# Altium integrated library Micron Memory Mobile LPDRAM.IntLib: 146 symbols (part 7 of 41)
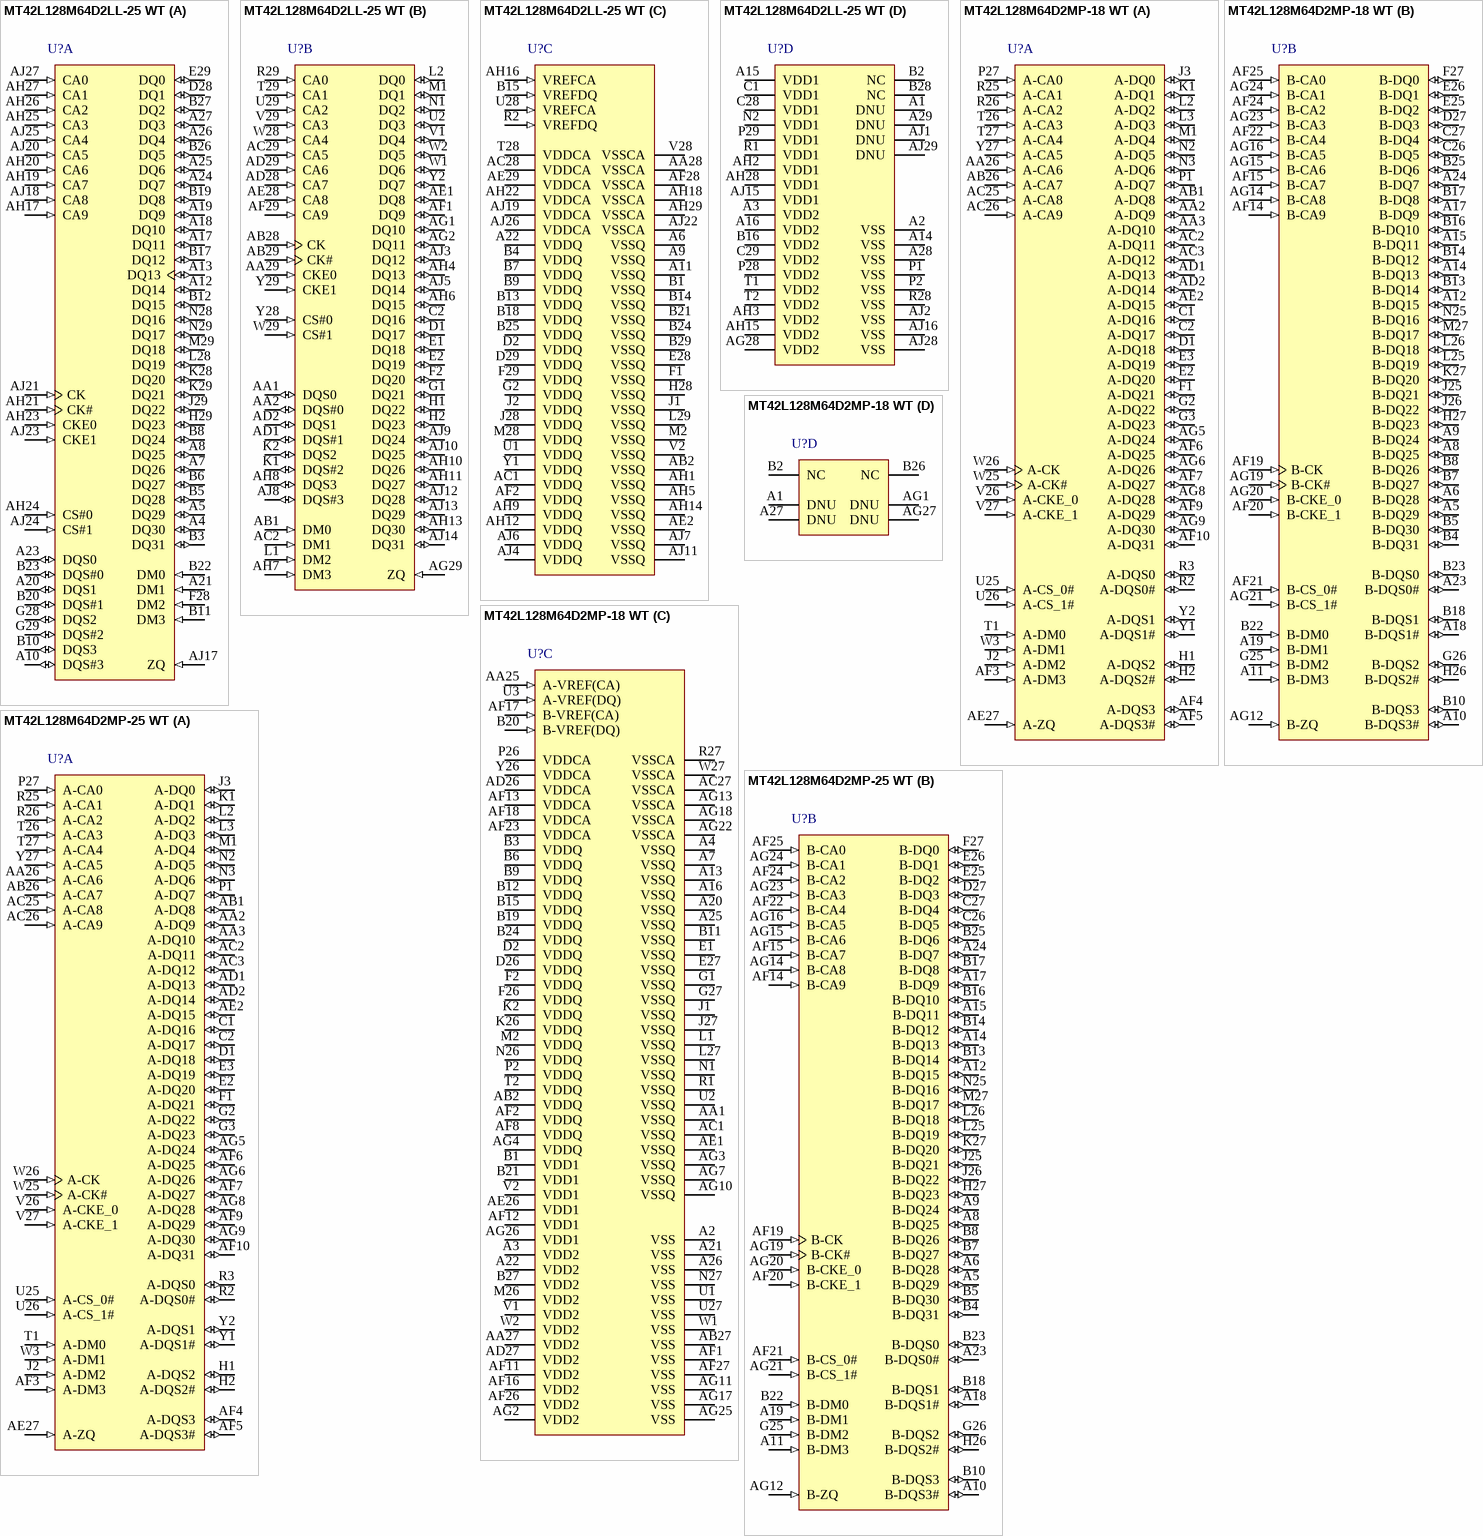
[diagram p30: symbols MT42L128M64D2LL-25 WT to MT42L128M64D2MP-25 WT]

## MT42L128M64D2LL-25 WT
designator U?
8Gb LPDDR2-800 SDRAM, 128Mb x 64, 2.5ns, 1.2V, -25 to 85 degC, 216-Ball WFBGA, Pb-Free; Manufacturer: Micron; PartNumber: MT42L128M64D2LL-25 WT; Clock Rate: 400 MHz; Op. Temp.: -25C to +85C; DatasheetVersion: Rev.L; PackageVersion: Rev.L; PackageReference: MICT-LL-216; PackageDescription: 216-Ball Fine-Pitch Ball Grid Array, 12 x 12 mm, Pitch 0.4 mm; Cycle Time: 2.5ns; Data Rate: LPDDR2-800; Density: 8Gb; Depth: 128Mb; Package: WFBGA; Part Status: Sampling; Pin Count: 216-ball; RoHS: Yes; Technology: Mobile LPDDR2; Voltage: 1.2V; Width: x64; Mounting Technology: Surface Mount; ComponentLink1Description: Manufacturer URL; ComponentLink1URL: http://www.micron.com/; ComponentLink2Description: Datasheet; ComponentLink2URL: http://www.micron.com/~/media/Documents/Products/Data%20Sheet/DRAM/Mobile%20DRAM/Low-Power%20DRAM/LPDDR2/U80M_4Gb_mobile_lpddr2_s4_sdram.pdf; ComponentLink3Description: Package Specification; ComponentLink3URL: http://www.micron.com/~/media/Documents/Products/Data%20Sheet/DRAM/Mobile%20DRAM/Low-Power%20DRAM/LPDDR2/U80M_4Gb_mobile_lpddr2_s4_sdram.pdf
footprint MICT-LL-216 (BGA, 216-Balls, Body 12x12mm, Pitch 0.4mm)
part A pins: A4 DQ30 (io) "Data input/output: Bidirectional data bus.", A5 DQ29 (io) "Data input/output: Bidirectional data bus.", A7 DQ26 (io) "Data input/output: Bidirectional data bus.", A8 DQ25 (io) "Data input/output: Bidirectional data bus.", A10 DQS#3 (io) "Data strobe: The data strobe is bidirectional (used for read and write data) and complementary (DQS and DQS#). It is edge-aligned output with read data and centered input with write data. DQS[3:0]/DQS[3:0]# is DQS for each (See Datasheet)", A12 DQ14 (io) "Data input/output: Bidirectional data bus.", A13 DQ13 (io) "Data input/output: Bidirectional data bus.", A17 DQ11 (io) "Data input/output: Bidirectional data bus.", A18 DQ10 (io) "Data input/output: Bidirectional data bus.", A19 DQ9 (io) "Data input/output: Bidirectional data bus.", A20 DQS1 (io) "Data strobe: The data strobe is bidirectional (used for read and write data) and complementary (DQS and DQS#). It is edge-aligned output with read data and centered input with write data. DQS[3:0]/DQS[3:0]# is DQS for each (See Datasheet)", A21 DM1 (in) "Input data mask: DM is an input mask signal for write data. Although DM balls are input-only, the DM loading is designed to match that of DQ and DQS balls. DM[3:0] is DM for each of the four data bytes, respectively.", A23 DQS0 (io) "Data strobe: The data strobe is bidirectional (used for read and write data) and complementary (DQS and DQS#). It is edge-aligned output with read data and centered input with write data. DQS[3:0]/DQS[3:0]# is DQS for each (See Datasheet)", A24 DQ7 (io) "Data input/output: Bidirectional data bus.", A25 DQ6 (io) "Data input/output: Bidirectional data bus.", A26 DQ4 (io) "Data input/output: Bidirectional data bus.", A27 DQ3 (io) "Data input/output: Bidirectional data bus.", AH17 CA9 (in) "Command/address inputs: Provide the command and address inputs according to the command truth table.", AH19 CA7 (in) "Command/address inputs: Provide the command and address inputs according to the command truth table.", AH20 CA6 (in) "Command/address inputs: Provide the command and address inputs according to the command truth table.", AH21 CK# (in) "Clock: CK and CK# are differential clock inputs. All CA inputs are sampled on both rising and falling edges of CK. CS and CKE inputs are sampled at the rising edge of CK. AC timings are referenced to clock.", AH23 CKE0 (in) "Clock enable: CKE HIGH activates and CKE LOW deactivates the internal clock signals, input buffers, and output drivers. Power-saving modes are entered and exited via CKE transitions. CKE is considered part of the command (See Datasheet)", AH24 CS#0 (in) "Chip select: CS# is considered part of the command code and is sampled at the rising edge of CK.", AH25 CA3 (in) "Command/address inputs: Provide the command and address inputs according to the command truth table.", AH26 CA2 (in) "Command/address inputs: Provide the command and address inputs according to the command truth table.", AH27 CA1 (in) "Command/address inputs: Provide the command and address inputs according to the command truth table.", AJ17 ZQ (in) "External impedance (240 ohm): This signal is used to calibrate the device output impedance.", AJ18 CA8 (in) "Command/address inputs: Provide the command and address inputs according to the command truth table.", AJ20 CA5 (in) "Command/address inputs: Provide the command and address inputs according to the command truth table.", AJ21 CK (in) "Clock: CK and CK# are differential clock inputs. All CA inputs are sampled on both rising and falling edges of CK. CS and CKE inputs are sampled at the rising edge of CK. AC timings are referenced to clock.", AJ23 CKE1 (in) "Clock enable: CKE HIGH activates and CKE LOW deactivates the internal clock signals, input buffers, and output drivers. Power-saving modes are entered and exited via CKE transitions. CKE is considered part of the command (See Datasheet)", AJ24 CS#1 (in) "Chip select: CS# is considered part of the command code and is sampled at the rising edge of CK.", AJ25 CA4 (in) "Command/address inputs: Provide the command and address inputs according to the command truth table.", AJ27 CA0 (in) "Command/address inputs: Provide the command and address inputs according to the command truth table.", B3 DQ31 (io) "Data input/output: Bidirectional data bus.", B5 DQ28 (io) "Data input/output: Bidirectional data bus.", B6 DQ27 (io) "Data input/output: Bidirectional data bus.", B8 DQ24 (io) "Data input/output: Bidirectional data bus.", B10 DQS3 (io) "Data input/output: Bidirectional data bus.", B11 DM3 (in) "Input data mask: DM is an input mask signal for write data. Although DM balls are input-only, the DM loading is designed to match that of DQ and DQS balls. DM[3:0] is DM for each of the four data bytes, respectively.", B12 DQ15 (io) "Data input/output: Bidirectional data bus.", B17 DQ12 (io) "Data input/output: Bidirectional data bus.", B19 DQ8 (io) "Data input/output: Bidirectional data bus.", B20 DQS#1 (io) "Data strobe: The data strobe is bidirectional (used for read and write data) and complementary (DQS and DQS#). It is edge-aligned output with read data and centered input with write data. DQS[3:0]/DQS[3:0]# is DQS for each (See Datasheet)", B22 DM0 (in) "Input data mask: DM is an input mask signal for write data. Although DM balls are input-only, the DM loading is designed to match that of DQ and DQS balls. DM[3:0] is DM for each of the four data bytes, respectively.", B23 DQS#0 (io) "Data strobe: The data strobe is bidirectional (used for read and write data) and complementary (DQS and DQS#). It is edge-aligned output with read data and centered input with write data. DQS[3:0]/DQS[3:0]# is DQS for each (See Datasheet)", B26 DQ5 (io) "Data input/output: Bidirectional data bus.", B27 DQ2 (io) "Data input/output: Bidirectional data bus.", D28 DQ1 (io) "Data input/output: Bidirectional data bus.", E29 DQ0 (io) "Data input/output: Bidirectional data bus.", F28 DM2 (in) "Input data mask: DM is an input mask signal for write data. Although DM balls are input-only, the DM loading is designed to match that of DQ and DQS balls. DM[3:0] is DM for each of the four data bytes, respectively.", G28 DQS2 (io) "Data strobe: The data strobe is bidirectional (used for read and write data) and complementary (DQS and DQS#). It is edge-aligned output with read data and centered input with write data. DQS[3:0]/DQS[3:0]# is DQS for each (See Datasheet)", G29 DQS#2 (io) "Data strobe: The data strobe is bidirectional (used for read and write data) and complementary (DQS and DQS#). It is edge-aligned output with read data and centered input with write data. DQS[3:0]/DQS[3:0]# is DQS for each (See Datasheet)", H29 DQ23 (io) "Data input/output: Bidirectional data bus.", J29 DQ22 (io) "Data input/output: Bidirectional data bus.", K28 DQ20 (io) "Data input/output: Bidirectional data bus.", K29 DQ21 (io) "Data input/output: Bidirectional data bus.", L28 DQ19 (io) "Data input/output: Bidirectional data bus.", M29 DQ18 (io) "Data input/output: Bidirectional data bus.", N28 DQ16 (io) "Data input/output: Bidirectional data bus.", N29 DQ17 (io) "Data input/output: Bidirectional data bus."
part B pins: AA1 DQS0 (io) "Data strobe: The data strobe is bidirectional (used for read and write data) and complementary (DQS and DQS#). It is edge-aligned output with read data and centered input with write data. DQS[3:0]/DQS[3:0]# is DQS for each (See Datasheet)", AA2 DQS#0 (io) "Data strobe: The data strobe is bidirectional (used for read and write data) and complementary (DQS and DQS#). It is edge-aligned output with read data and centered input with write data. DQS[3:0]/DQS[3:0]# is DQS for each (See Datasheet)", AA29 CKE0 (in) "Clock enable: CKE HIGH activates and CKE LOW deactivates the internal clock signals, input buffers, and output drivers. Power-saving modes are entered and exited via CKE transitions. CKE is considered part of the command (See Datasheet)", AB1 DM0 (in) "Input data mask: DM is an input mask signal for write data. Although DM balls are input-only, the DM loading is designed to match that of DQ and DQS balls. DM[3:0] is DM for each of the four data bytes, respectively.", AB28 CK (in) "Clock: CK and CK# are differential clock inputs. All CA inputs are sampled on both rising and falling edges of CK. CS and CKE inputs are sampled at the rising edge of CK. AC timings are referenced to clock.", AB29 CK# (in) "Clock: CK and CK# are differential clock inputs. All CA inputs are sampled on both rising and falling edges of CK. CS and CKE inputs are sampled at the rising edge of CK. AC timings are referenced to clock.", AC2 DM1 (in) "Input data mask: DM is an input mask signal for write data. Although DM balls are input-only, the DM loading is designed to match that of DQ and DQS balls. DM[3:0] is DM for each of the four data bytes, respectively.", AC29 CA5 (in) "Command/address inputs: Provide the command and address inputs according to the command truth table.", AD1 DQS#1 (io) "Data strobe: The data strobe is bidirectional (used for read and write data) and complementary (DQS and DQS#). It is edge-aligned output with read data and centered input with write data. DQS[3:0]/DQS[3:0]# is DQS for each (See Datasheet)", AD2 DQS1 (io) "Data strobe: The data strobe is bidirectional (used for read and write data) and complementary (DQS and DQS#). It is edge-aligned output with read data and centered input with write data. DQS[3:0]/DQS[3:0]# is DQS for each (See Datasheet)", AD28 CA7 (in) "Command/address inputs: Provide the command and address inputs according to the command truth table.", AD29 CA6 (in) "Command/address inputs: Provide the command and address inputs according to the command truth table.", AE1 DQ8 (io) "Data input/output: Bidirectional data bus.", AE28 CA8 (in) "Command/address inputs: Provide the command and address inputs according to the command truth table.", AF1 DQ9 (io) "Data input/output: Bidirectional data bus.", AF29 CA9 (in) "Command/address inputs: Provide the command and address inputs according to the command truth table.", AG1 DQ10 (io) "Data input/output: Bidirectional data bus.", AG2 DQ11 (io) "Data input/output: Bidirectional data bus.", AG29 ZQ (in) "External impedance (240 ohm): This signal is used to calibrate the device output impedance.", AH4 DQ13 (io) "Data input/output: Bidirectional data bus.", AH6 DQ15 (io) "Data input/output: Bidirectional data bus.", AH7 DM3 (in) "Input data mask: DM is an input mask signal for write data. Although DM balls are input-only, the DM loading is designed to match that of DQ and DQS balls. DM[3:0] is DM for each of the four data bytes, respectively", AH8 DQS3 (io) "Data strobe: The data strobe is bidirectional (used for read and write data) and complementary (DQS and DQS#). It is edge-aligned output with read data and centered input with write data. DQS[3:0]/DQS[3:0]# is DQS for each (See Datasheet)", AH10 DQ26 (io) "Data input/output: Bidirectional data bus.", AH11 DQ27 (io) "Data input/output: Bidirectional data bus.", AH13 DQ30 (io) "Data input/output: Bidirectional data bus.", AJ3 DQ12 (io) "Data input/output: Bidirectional data bus.", AJ5 DQ14 (io) "Data input/output: Bidirectional data bus.", AJ8 DQS#3 (io) "Data strobe: The data strobe is bidirectional (used for read and write data) and complementary (DQS and DQS#). It is edge-aligned output with read data and centered input with write data. DQS[3:0]/DQS[3:0]# is DQS for each (See Datasheet)", AJ9 DQ24 (io) "Data input/output: Bidirectional data bus.", AJ10 DQ25 (io) "Data input/output: Bidirectional data bus.", AJ12 DQ28 (io) "Data input/output: Bidirectional data bus.", AJ13 DQ29 (io) "Data input/output: Bidirectional data bus.", AJ14 DQ31 (io) "Data input/output: Bidirectional data bus.", C2 DQ16 (io) "Data input/output: Bidirectional data bus.", D1 DQ17 (io) "Data input/output: Bidirectional data bus.", E1 DQ18 (io) "Data input/output: Bidirectional data bus.", E2 DQ19 (io) "Data input/output: Bidirectional data bus.", F2 DQ20 (io) "Data input/output: Bidirectional data bus.", G1 DQ21 (io) "Data input/output: Bidirectional data bus.", H1 DQ22 (io) "Data input/output: Bidirectional data bus.", H2 DQ23 (io) "Data input/output: Bidirectional data bus.", K1 DQS#2 (io) "Data strobe: The data strobe is bidirectional (used for read and write data) and complementary (DQS and DQS#). It is edge-aligned output with read data and centered input with write data. DQS[3:0]/DQS[3:0]# is DQS for each (See Datasheet)", K2 DQS2 (io) "Data strobe: The data strobe is bidirectional (used for read and write data) and complementary (DQS and DQS#). It is edge-aligned output with read data and centered input with write data. DQS[3:0]/DQS[3:0]# is DQS for each (See Datasheet)", L1 DM2 (in) "Input data mask: DM is an input mask signal for write data. Although DM balls are input-only, the DM loading is designed to match that of DQ and DQS balls. DM[3:0] is DM for each of the four data bytes, respectively.", L2 DQ0 (io) "Data input/output: Bidirectional data bus.", M1 DQ1 (io) "Data input/output: Bidirectional data bus.", N1 DQ2 (io) "Data input/output: Bidirectional data bus.", R29 CA0 (in) "Command/address inputs: Provide the command and address inputs according to the command truth table.", T29 CA1 (in) "Command/address inputs: Provide the command and address inputs according to the command truth table.", U2 DQ3 (io) "Data input/output: Bidirectional data bus.", U29 CA2 (in) "Command/address inputs: Provide the command and address inputs according to the command truth table.", V1 DQ4 (io) "Data input/output: Bidirectional data bus.", V29 CA3 (in) "Command/address inputs: Provide the command and address inputs according to the command truth table.", W1 DQ6 (io) "Data input/output: Bidirectional data bus.", W2 DQ5 (io) "Data input/output: Bidirectional data bus.", W28 CA4 (in) "Command/address inputs: Provide the command and address inputs according to the command truth table.", W29 CS#1 (in) "Chip select: CS# is considered part of the command code and is sampled at the rising edge of CK.", Y2 DQ7 (io) "Data input/output: Bidirectional data bus.", Y28 CS#0 (in) "Chip select: CS# is considered part of the command code and is sampled at the rising edge of CK.", Y29 CKE1 (in) "Clock enable: CKE HIGH activates and CKE LOW deactivates the internal clock signals, input buffers, and output drivers. Power-saving modes are entered and exited via CKE transitions. CKE is considered part of the command (See Datasheet)"
part C pins: A6 VSSQ (power) "DQ ground: Isolated on the die for improved noise immunity.", A9 VSSQ (power) "DQ ground: Isolated on the die for improved noise immunity.", A11 VSSQ (power) "DQ ground: Isolated on the die for improved noise immunity.", A22 VDDQ (power) "DQ power supply: Isolated on the die for improved noise immunity.", AA28 VSSCA (power) "Command/address ground: Isolated on the die for improved noise immunity.", AB2 VSSQ (power) "DQ ground: Isolated on the die for improved noise immunity.", AC1 VDDQ (power) "DQ power supply: Isolated on the die for improved noise immunity.", AC28 VDDCA (power) "Command/address power supply: Command/address power supply", AE2 VSSQ (power) "DQ ground: Isolated on the die for improved noise immunity.", AE29 VDDCA (power) "Command/address power supply: Command/address power supply.", AF2 VDDQ (power) "DQ power supply: Isolated on the die for improved noise immunity.", AF28 VSSCA (power) "Command/address ground: Isolated on the die for improved noise immunity", AH1 VSSQ (power) "DQ ground: Isolated on the die for improved noise immunity", AH5 VSSQ (power) "DQ ground: Isolated on the die for improved noise immunity.", AH9 VDDQ (power) "DQ power supply: Isolated on the die for improved noise immunity.", AH12 VDDQ (power) "DQ power supply: Isolated on the die for improved noise immunity.", AH14 VSSQ (power) "DQ ground: Isolated on the die for improved noise immunity.", AH16 VREFCA (in) "Reference voltage: VREFCA is reference for command/address input buffers, VREFDQ is reference for DQ input buffers.", AH18 VSSCA (power) "Command/address ground: Isolated on the die for improved noise immunity.", AH22 VDDCA (power) "Command/address power supply: Command/address power supply.", AH29 VSSCA (power) "Command/address ground: Isolated on the die for improved noise immunity.", AJ4 VDDQ (power) "DQ power supply: Isolated on the die for improved noise immunity.", AJ6 VDDQ (power) "DQ power supply: Isolated on the die for improved noise immunity.", AJ7 VSSQ (power) "DQ ground: Isolated on the die for improved noise immunity.", AJ11 VSSQ (power) "DQ ground: Isolated on the die for improved noise immunity.", AJ19 VDDCA (power) "Command/address power supply: Command/address power supply.", AJ22 VSSCA (power) "Command/address ground: Isolated on the die for improved noise immunity.", AJ26 VDDCA (power) "Command/address power supply: Command/address power supply.", B1 VSSQ (power) "DQ ground: Isolated on the die for improved noise immunity.", B4 VDDQ (power) "DQ power supply: Isolated on the die for improved noise immunity.", B7 VDDQ (power) "DQ power supply: Isolated on the die for improved noise immunity", B9 VDDQ (power) "DQ power supply: Isolated on the die for improved noise immunity.", B13 VDDQ (power) "DQ power supply: Isolated on the die for improved noise immunity.", B14 VSSQ (power) "DQ ground: Isolated on the die for improved noise immunity.", B15 VREFDQ (in) "Reference voltage: VREFCA is reference for command/address input buffers,", B18 VDDQ (power) "DQ power supply: Isolated on the die for improved noise immunity.", B21 VSSQ (power) "DQ ground: Isolated on the die for improved noise immunity.", B24 VSSQ (power) "DQ ground: Isolated on the die for improved noise immunity.", B25 VDDQ (power) "DQ power supply: Isolated on the die for improved noise immunity.", B29 VSSQ (power) "DQ power supply: Isolated on the die for improved noise immunity.", D2 VDDQ (power) "DQ power supply: Isolated on the die for improved noise immunity.", D29 VDDQ (power) "DQ power supply: Isolated on the die for improved noise immunity.", E28 VSSQ (power) "DQ ground: Isolated on the die for improved noise immunity.", F1 VSSQ (power) "DQ ground: Isolated on the die for improved noise immunity.", F29 VDDQ (power) "DQ power supply: Isolated on the die for improved noise immunity.", G2 VDDQ (power) "DQ power supply: Isolated on the die for improved noise immunity.", H28 VSSQ (power) "DQ ground: Isolated on the die for improved noise immunity.", J1 VSSQ (power) "DQ ground: Isolated on the die for improved noise immunity.", J2 VDDQ (power) "DQ power supply: Isolated on the die for improved noise immunity.", J28 VDDQ (power) "DQ power supply: Isolated on the die for improved noise immunity.", L29 VSSQ (power) "DQ ground: Isolated on the die for improved noise immunity.", M2 VSSQ (power) "DQ ground: Isolated on the die for improved noise immunity.", M28 VDDQ (power) "DQ power supply: Isolated on the die for improved noise immunity.", R2 VREFDQ (in) "Reference voltage: VREFCA is reference for command/address input buffers, VREFDQ is reference for DQ input buffers.", T28 VDDCA (power) "Command/address power supply: Command/address power supply.", U1 VDDQ (power) "DQ power supply: Isolated on the die for improved noise immunity.", U28 VREFCA (in) "Reference voltage: VREFCA is reference for command/address input buffers, VREFDQ is reference for DQ input buffers.", V2 VSSQ (power) "DQ ground: Isolated on the die for improved noise immunity.", V28 VSSCA (power) "Command/address ground: Isolated on the die for improved noise immunity.", Y1 VDDQ (power) "DQ power supply: Isolated on the die for improved noise immunity."
part D pins: A1 DNU "Do not use: Must be grounded or left floating.", A2 VSS (power) "Common ground", A3 VDD2 (power) "Core power: Supply 2.", A14 VSS (power) "Common ground", A15 VDD1 (power) "Core power: Supply 1.", A16 VDD2 (power) "Core power: Supply 2.", A28 VSS (power) "Common ground", A29 DNU "Do not use: Must be grounded or left floating.", AG28 VDD2 (power) "Core power: Supply 2.", AH2 VDD1 (power) "Core power: Supply 1.", AH3 VDD2 (power) "Core power: Supply 2.", AH15 VDD2 (power) "Core power: Supply 2.", AH28 VDD1 (power) "Core power: Supply 1.", AJ1 DNU "Do not use: Must be grounded or left floating.", AJ2 VSS (power) "Common ground", AJ15 VDD1 (power) "Core power: Supply 1.", AJ16 VSS (power) "Common ground", AJ28 VSS (power) "Common ground", AJ29 DNU "Do not use: Must be grounded or left floating.", B2 NC "No connect: Not internally connected.", B16 VDD2 (power) "VREFDQ is reference for DQ input buffers.", B28 NC "No connect: Not internally connected.", C1 VDD1 (power) "Core power: Supply 1.", C28 VDD1 (power) "Core power: Supply 1.", C29 VDD2 (power) "Core power: Supply 2.", N2 VDD1 (power) "Core power: Supply 1.", P1 VSS (power) "Common ground", P2 VSS (power) "Common ground", P28 VDD2 (power) "Core power: Supply 2.", P29 VDD1 (power) "Core power: Supply 1.", R1 VDD1 (power) "Core power: Supply 1.", R28 VSS (power) "Common ground", T1 VDD2 (power) "Core power: Supply 2.", T2 VDD2 (power) "Core power: Supply 2."

## MT42L128M64D2MP-18 WT
designator U?
8Gb LPDDR2-1066 SDRAM, 128Mb x 64, 1.875ns, 1.2V, -25 to 85 degC, 220-Ball WFBGA; Manufacturer: Micron; PartNumber: MT42L128M64D2MP-18 WT; Clock Rate: 533 MHz; Op. Temp.: -25C to +85C; DatasheetVersion: Rev.L; PackageVersion: Rev.L; PackageReference: MICT-MP-220; PackageDescription: 220-Ball Fine-Pitch Ball Grid Array, 14 x 14 mm, Pitch 0.5 mm; Cycle Time: 1.875ns; Data Rate: LPDDR2-1066; Density: 8Gb; Depth: 128Mb; Package: WFBGA; Part Status: Sampling; Pin Count: 220-ball; Technology: Mobile LPDDR2; Voltage: 1.2V; Width: x64; Mounting Technology: Surface Mount; ComponentLink1Description: Manufacturer URL; ComponentLink1URL: http://www.micron.com/; ComponentLink2Description: Datasheet; ComponentLink2URL: http://www.micron.com/~/media/Documents/Products/Data%20Sheet/DRAM/Mobile%20DRAM/Low-Power%20DRAM/LPDDR2/U80M_4Gb_mobile_lpddr2_s4_sdram.pdf; ComponentLink3Description: Package Specification; ComponentLink3URL: http://www.micron.com/~/media/Documents/Products/Data%20Sheet/DRAM/Mobile%20DRAM/Low-Power%20DRAM/LPDDR2/U80M_4Gb_mobile_lpddr2_s4_sdram.pdf
footprint MICT-MP-220 (BGA, 220-Balls, Body 14x14mm, Pitch 0.5mm)
part A pins: AA2 A-DQ9 (io) "Data input/output: Bidirectional data bus.", AA3 A-DQ10 (io) "Data input/output: Bidirectional data bus.", AA26 A-CA6 (in) "Command/address inputs: Provide the command and address inputs according to the command truth table.", AB1 A-DQ8 (io) "Data input/output: Bidirectional data bus.", AB26 A-CA7 (in) "Command/address inputs: Provide the command and address inputs according to the command truth table.", AC2 A-DQ11 (io) "Data input/output: Bidirectional data bus.", AC3 A-DQ12 (io) "Data input/output: Bidirectional data bus.", AC25 A-CA8 (in) "Command/address inputs: Provide the command and address inputs according to the command truth table.", AC26 A-CA9 (in) "Command/address inputs: Provide the command and address inputs according to the command truth table.", AD1 A-DQ13 (io) "Data input/output: Bidirectional data bus.", AD2 A-DQ14 (io) "Data input/output: Bidirectional data bus.", AE2 A-DQ15 (io) "Data input/output: Bidirectional data bus.", AE27 A-ZQ (in) "External impedance (240 ohm): This signal is used to calibrate the device output impedance.", AF3 A-DM3 (in) "Input data mask: DM is an input mask signal for write data. Although DM balls are input-only, the DM loading is designed to match that of DQ and DQS balls. DM[3:0] is DM for each of the four data bytes, respectively.", AF4 A-DQS3 (io) "Data strobe: The data strobe is bidirectional (used for read and write data) and complementary (DQS and DQS#). It is edge-aligned output with read data and centered input with write data. DQS[3:0]/DQS[3:0]# is DQS for each (See Datasheet)", AF5 A-DQS3# (io) "Data strobe: The data strobe is bidirectional (used for read and write data) and complementary (DQS and DQS#). It is edge-aligned output with read data and centered input with write data. DQS[3:0]/DQS[3:0]# is DQS for each (See Datasheet)", AF6 A-DQ25 (io) "Data input/output: Bidirectional data bus.", AF7 A-DQ27 (io) "Data input/output: Bidirectional data bus.", AF9 A-DQ29 (io) "Data input/output: Bidirectional data bus.", AF10 A-DQ31 (io) "Data input/output: Bidirectional data bus.", AG5 A-DQ24 (io) "Data input/output: Bidirectional data bus.", AG6 A-DQ26 (io) "Data input/output: Bidirectional data bus.", AG8 A-DQ28 (io) "Data input/output: Bidirectional data bus.", AG9 A-DQ30 (io) "Data input/output: Bidirectional data bus.", C1 A-DQ16 (io) "Data input/output: Bidirectional data bus.", C2 A-DQ17 (io) "Data input/output: Bidirectional data bus.", D1 A-DQ18 (io) "Data input/output: Bidirectional data bus.", E2 A-DQ20 (io) "Data input/output: Bidirectional data bus.", E3 A-DQ19 (io) "Data input/output: Bidirectional data bus.", F1 A-DQ21 (io) "Data input/output: Bidirectional data bus.", G2 A-DQ22 (io) "Data input/output: Bidirectional data bus.", G3 A-DQ23 (io) "Data input/output: Bidirectional data bus.", H1 A-DQS2 (io) "Data strobe: The data strobe is bidirectional (used for read and write data) and complementary (DQS and DQS#). It is edge-aligned output with read data and centered input with write data. DQS[3:0]/DQS[3:0]# is DQS for each (See Datasheet)", H2 A-DQS2# (io) "Data strobe: The data strobe is bidirectional (used for read and write data) and complementary (DQS and DQS#). It is edge-aligned output with read data and centered input with write data. DQS[3:0]/DQS[3:0]# is DQS for each (See Datasheet)", J2 A-DM2 (in) "Input data mask: DM is an input mask signal for write data. Although DM balls are input-only, the DM loading is designed to match that of DQ and DQS balls. DM[3:0] is DM for each of the four data bytes, respectively.", J3 A-DQ0 (io) "Data input/output: Bidirectional data bus.", K1 A-DQ1 (io) "Data input/output: Bidirectional data bus.", L2 A-DQ2 (io) "Data input/output: Bidirectional data bus.", L3 A-DQ3 (io) "Data input/output: Bidirectional data bus.", M1 A-DQ4 (io) "Data input/output: Bidirectional data bus.", N2 A-DQ5 (io) "Data input/output: Bidirectional data bus.", N3 A-DQ6 (io) "Data input/output: Bidirectional data bus.", P1 A-DQ7 (io) "Data input/output: Bidirectional data bus.", P27 A-CA0 (in) "Command/address inputs: Provide the command and address inputs according to the command truth table.", R2 A-DQS0# (io) "Data strobe: The data strobe is bidirectional (used for read and write data) and complementary (DQS and DQS#). It is edge-aligned output with read data and centered input with write data. DQS[3:0]/DQS[3:0]# is DQS for each (See Datasheet)", R3 A-DQS0 (io) "Data strobe: The data strobe is bidirectional (used for read and write data) and complementary (DQS and DQS#). It is edge-aligned output with read data and centered input with write data. DQS[3:0]/DQS[3:0]# is DQS for each (See Datasheet)", R25 A-CA1 (in) "Command/address inputs: Provide the command and address inputs according to the command truth table.", R26 A-CA2 (in) "Command/address inputs: Provide the command and address inputs according to the command truth table.", T1 A-DM0 (in) "Input data mask: DM is an input mask signal for write data. Although DM balls are input-only, the DM loading is designed to match that of DQ and DQS balls. DM[3:0] is DM for each of the four data bytes, respectively.", T26 A-CA3 (in) "Command/address inputs: Provide the command and address inputs according to the command truth table.", T27 A-CA4 (in) "Command/address inputs: Provide the command and address inputs according to the command truth table.", U25 A-CS_0# (in) "Chip select: CS# is considered part of the command code and is sampled at the rising edge of CK.", U26 A-CS_1# (in) "Chip select: CS# is considered part of the command code and is sampled at the rising edge of CK.", V26 A-CKE_0 (in) "Clock enable: CKE HIGH activates and CKE LOW deactivates the internal clock signals, input buffers, and output drivers. Power-saving modes are entered and exited via CKE transitions. CKE is considered part of the command (See Datasheet)", V27 A-CKE_1 (in) "Clock enable: CKE HIGH activates and CKE LOW deactivates the internal clock signals, input buffers, and output drivers. Power-saving modes are entered and exited via CKE transitions. CKE is considered part of the command (See Datasheet)", W3 A-DM1 (in) "Input data mask: DM is an input mask signal for write data. Although DM balls are input-only, the DM loading is designed to match that of DQ and DQS balls. DM[3:0] is DM for each of the four data bytes, respectively.", W25 A-CK# (in) "Clock: CK and CK# are differential clock inputs. All CA inputs are sampled on both rising and falling edges of CK. CS and CKE inputs are sampled at the rising edge of CK. AC timings are referenced to clock.", W26 A-CK (in) "Clock: CK and CK# are differential clock inputs. All CA inputs are sampled on both rising and falling edges of CK. CS and CKE inputs are sampled at the rising edge of CK. AC timings are referenced to clock.", Y1 A-DQS1# (io) "Data strobe: The data strobe is bidirectional (used for read and write data) and complementary (DQS and DQS#). It is edge-aligned output with read data and centered input with write data. DQS[3:0]/DQS[3:0]# is DQS for each (See Datasheet)", Y2 A-DQS1 (io) "Data strobe: The data strobe is bidirectional (used for read and write data) and complementary (DQS and DQS#). It is edge-aligned output with read data and centered input with write data. DQS[3:0]/DQS[3:0]# is DQS for each (See Datasheet)", Y27 A-CA5 (in) "Command/address inputs: Provide the command and address inputs according to the command truth table."
part B pins: A5 B-DQ29 (io) "Data input/output: Bidirectional data bus.", A6 B-DQ28 (io) "Data input/output: Bidirectional data bus.", A8 B-DQ25 (io) "Data input/output: Bidirectional data bus.", A9 B-DQ24 (io) "Data input/output: Bidirectional data bus.", A10 B-DQS3# (io) "Data strobe: The data strobe is bidirectional (used for read and write data) and complementary (DQS and DQS#). It is edge-aligned output with read data and centered input with write data. DQS[3:0]/DQS[3:0]# is DQS for each (See Datasheet)", A11 B-DM3 (in) "Input data mask: DM is an input mask signal for write data. Although DM balls are input-only, the DM loading is designed to match that of DQ and DQS balls. DM[3:0] is DM for each of the four data bytes, respectively.", A12 B-DQ15 (io) "Data input/output: Bidirectional data bus.", A14 B-DQ13 (io) "Data input/output: Bidirectional data bus.", A15 B-DQ11 (io) "Data input/output: Bidirectional data bus.", A17 B-DQ9 (io) "Data input/output: Bidirectional data bus.", A18 B-DQS1# (io) "Data strobe: The data strobe is bidirectional (used for read and write data) and complementary (DQS and DQS#). It is edge-aligned output with read data and centered input with write data. DQS[3:0]/DQS[3:0]# is DQS for each (See Datasheet)", A19 B-DM1 (in) "Input data mask: DM is an input mask signal for write data. Although DM balls are input-only, the DM loading is designed to match that of DQ and DQS balls. DM[3:0] is DM for each of the four data bytes, respectively.", A23 B-DQS0# (io) "Data strobe: The data strobe is bidirectional (used for read and write data) and complementary (DQS and DQS#). It is edge-aligned output with read data and centered input with write data. DQS[3:0]/DQS[3:0]# is DQS for each (See Datasheet)", A24 B-DQ7 (io) "Data input/output: Bidirectional data bus.", AF14 B-CA9 (in) "Command/address inputs: Provide the command and address inputs according to the command truth table.", AF15 B-CA7 (in) "Command/address inputs: Provide the command and address inputs according to the command truth table.", AF19 B-CK (in) "Clock: CK and CK# are differential clock inputs. All CA inputs are sampled on both rising and falling edges of CK. CS and CKE inputs are sampled at the rising edge of CK. AC timings are referenced to clock.", AF20 B-CKE_1 (in) "Clock enable: CKE HIGH activates and CKE LOW deactivates the internal clock signals, input buffers, and output drivers. Power-saving modes are entered and exited via CKE transitions. CKE is considered part of the command (See Datasheet)", AF21 B-CS_0# (in) "Chip select: CS# is considered part of the command code and is sampled at the rising edge of CK.", AF22 B-CA4 (in) "Command/address inputs: Provide the command and address inputs according to the command truth table.", AF24 B-CA2 (in) "Command/address inputs: Provide the command and address inputs according to the command truth table.", AF25 B-CA0 (in) "Command/address inputs: Provide the command and address inputs according to the command truth table.", AG12 B-ZQ (in) "External impedance (240 ohm): This signal is used to calibrate the device output impedance.", AG14 B-CA8 (in) "Command/address inputs: Provide the command and address inputs according to the command truth table.", AG15 B-CA6 (in) "Command/address inputs: Provide the command and address inputs according to the command truth table.", AG16 B-CA5 (in) "Command/address inputs: Provide the command and address inputs according to the command truth table.", AG19 B-CK# (in) "Clock: CK and CK# are differential clock inputs. All CA inputs are sampled on both rising and falling edges of CK. CS and CKE inputs are sampled at the rising edge of CK. AC timings are referenced to clock.", AG20 B-CKE_0 (in) "Clock enable: CKE HIGH activates and CKE LOW deactivates the internal clock signals, input buffers, and output drivers. Power-saving modes are entered and exited via CKE transitions. CKE is considered part of the command (See Datasheet)", AG21 B-CS_1# (in) "Chip select: CS# is considered part of the command code and is sampled at the rising edge of CK.", AG23 B-CA3 (in) "Command/address inputs: Provide the command and address inputs according to the command truth table.", AG24 B-CA1 (in) "Command/address inputs: Provide the command and address inputs according to the command truth table.", B4 B-DQ31 (io) "Data input/output: Bidirectional data bus.", B5 B-DQ30 (io) "Data input/output: Bidirectional data bus.", B7 B-DQ27 (io) "Data input/output: Bidirectional data bus.", B8 B-DQ26 (io) "Data input/output: Bidirectional data bus.", B10 B-DQS3 (io) "Data strobe: The data strobe is bidirectional (used for read and write data) and complementary (DQS and DQS#). It is edge-aligned output with read data and centered input with write data. DQS[3:0]/DQS[3:0]# is DQS for each (See Datasheet)", B13 B-DQ14 (io) "Data input/output: Bidirectional data bus.", B14 B-DQ12 (io) "Data input/output: Bidirectional data bus.", B16 B-DQ10 (io) "Data input/output: Bidirectional data bus.", B17 B-DQ8 (io) "Data input/output: Bidirectional data bus.", B18 B-DQS1 (io) "Data strobe: The data strobe is bidirectional (used for read and write data) and complementary (DQS and DQS#). It is edge-aligned output with read data and centered input with write data. DQS[3:0]/DQS[3:0]# is DQS for each (See Datasheet)", B22 B-DM0 (in) "Input data mask: DM is an input mask signal for write data. Although DM balls are input-only, the DM loading is designed to match that of DQ and DQS balls. DM[3:0] is DM for each of the four data bytes, respectively.", B23 B-DQS0 (io) "Data strobe: The data strobe is bidirectional (used for read and write data) and complementary (DQS and DQS#). It is edge-aligned output with read data and centered input with write data. DQS[3:0]/DQS[3:0]# is DQS for each (See Datasheet)", B25 B-DQ6 (io) "Data input/output: Bidirectional data bus.", C26 B-DQ5 (io) "Data input/output: Bidirectional data bus.", C27 B-DQ4 (io) "Data input/output: Bidirectional data bus.", D27 B-DQ3 (io) "Data input/output: Bidirectional data bus.", E25 B-DQ2 (io) "Data input/output: Bidirectional data bus.", E26 B-DQ1 (io) "Data input/output: Bidirectional data bus.", F27 B-DQ0 (io) "Data input/output: Bidirectional data bus.", G25 B-DM2 (in) "Input data mask: DM is an input mask signal for write data. Although DM balls are input-only, the DM loading is designed to match that of DQ and DQS balls. DM[3:0] is DM for each of the four data bytes, respectively.", G26 B-DQS2 (io) "Data strobe: The data strobe is bidirectional (used for read and write data) and complementary (DQS and DQS#). It is edge-aligned output with read data and centered input with write data. DQS[3:0]/DQS[3:0]# is DQS for each (See Datasheet)", H26 B-DQS2# (io) "Data strobe: The data strobe is bidirectional (used for read and write data) and complementary (DQS and DQS#). It is edge-aligned output with read data and centered input with write data. DQS[3:0]/DQS[3:0]# is DQS for each (See Datasheet)", H27 B-DQ23 (io) "Data input/output: Bidirectional data bus.", J25 B-DQ21 (io) "Data input/output: Bidirectional data bus.", J26 B-DQ22 (io) "Data input/output: Bidirectional data bus.", K27 B-DQ20 (io) "Data input/output: Bidirectional data bus.", L25 B-DQ19 (io) "Data input/output: Bidirectional data bus.", L26 B-DQ18 (io) "Data input/output: Bidirectional data bus.", M27 B-DQ17 (io) "Data input/output: Bidirectional data bus.", N25 B-DQ16 (io) "Data input/output: Bidirectional data bus."
part C pins: A2 VSS (power) "Common ground", A3 VDD2 (power) "Core power: Supply 2.", A4 VSSQ (power) "DQ ground: Isolated on the die for improved noise immunity.", A7 VSSQ (power) "DQ ground: Isolated on the die for improved noise immunity.", A13 VSSQ (power) "DQ ground: Isolated on the die for improved noise immunity.", A16 VSSQ (power) "DQ ground: Isolated on the die for improved noise immunity.", A20 VSSQ (power) "DQ ground: Isolated on the die for improved noise immunity.", A21 VSS (power) "Common ground", A22 VDD2 (power) "Core power: Supply 2.", A25 VSSQ (power) "DQ ground: Isolated on the die for improved noise immunity.", A26 VSS (power) "Common ground", AA1 VSSQ (power) "DQ ground: Isolated on the die for improved noise immunity.", AA25 A-VREF(CA) (in) "Reference voltage: VREFCA is reference for command/address input buffers, VREFDQ is reference for DQ input buffers.", AA27 VDD2 (power) "Core power: Supply 2.", AB2 VDDQ (power) "DQ power supply: Isolated on the die for improved noise immunity.", AB27 VSS (power) "Common ground", AC1 VSSQ (power) "DQ ground: Isolated on the die for improved noise immunity.", AC27 VSSCA (power) "Command/address ground: Isolated on the die for improved noise immunity.", AD26 VDDCA (power) "Command/address power supply: Command/address power supply.", AD27 VDD2 (power) "Core power: Supply 2.", AE1 VSSQ (power) "DQ ground: Isolated on the die for improved noise immunity.", AE26 VDD1 (power) "Core power: Supply 1.", AF1 VSS (power) "Common ground", AF2 VDDQ (power) "DQ power supply: Isolated on the die for improved noise immunity.", AF8 VDDQ (power) "DQ power supply: Isolated on the die for improved noise immunity.", AF11 VDD2 (power) "Core power: Supply 2.", AF12 VDD1 (power) "Core power: Supply 1.", AF13 VDDCA (power) "Command/address power supply: Command/address power supply.", AF16 VDD2 (power) "Core power: Supply 2.", AF17 B-VREF(CA) (in) "Reference voltage: VREFCA is reference for command/address input buffers, VREFDQ is reference for DQ input buffers.", AF18 VDDCA (power) "Command/address power supply: Command/address power supply.", AF23 VDDCA (power) "Command/address power supply: Command/address power supply.", AF26 VDD2 (power) "Core power: Supply 2.", AF27 VSS (power) "Common ground", AG2 VDD2 (power) "Core power: Supply 2.", AG3 VSSQ (power) "DQ ground: Isolated on the die for improved noise immunity.", AG4 VDDQ (power) "DQ power supply: Isolated on the die for improved noise immunity.", AG7 VSSQ (power) "DQ ground: Isolated on the die for improved noise immunity.", AG10 VSSQ (power) "DQ ground: Isolated on the die for improved noise immunity.", AG11 VSS (power) "Common ground", AG13 VSSCA (power) "Command/address ground: Isolated on the die for improved noise immunity.", AG17 VSS (power) "Common ground", AG18 VSSCA (power) "Command/address ground: Isolated on the die for improved noise immunity.", AG22 VSSCA (power) "Command/address ground: Isolated on the die for improved noise immunity.", AG25 VSS (power) "Common ground", AG26 VDD1 (power) "Core power: Supply 1.", B1 VDD1 (power) "Core power: Supply 1.", B3 VDDQ (power) "DQ power supply: Isolated on the die for improved noise immunity.", B6 VDDQ (power) "DQ power supply: Isolated on the die for improved noise immunity.", B9 VDDQ (power) "DQ power supply: Isolated on the die for improved noise immunity.", B11 VSSQ (power) "DQ ground: Isolated on the die for improved noise immunity.", B12 VDDQ (power) "DQ power supply: Isolated on the die for improved noise immunity.", B15 VDDQ (power) "DQ power supply: Isolated on the die for improved noise immunity.", B19 VDDQ (power) "DQ power supply: Isolated on the die for improved noise immunity.", B20 B-VREF(DQ) (in) "Reference voltage: VREFCA is reference for command/address input buffers, VREFDQ is reference for DQ input buffers.", B21 VDD1 (power) "Core power: Supply 1.", B24 VDDQ (power) "DQ power supply: Isolated on the die for improved noise immunity.", B27 VDD2 (power) "Core power: Supply 2.", D2 VDDQ (power) "DQ power supply: Isolated on the die for improved noise immunity.", D26 VDDQ (power) "DQ power supply: Isolated on the die for improved noise immunity.", E1 VSSQ (power) "DQ ground: Isolated on the die for improved noise immunity.", E27 VSSQ (power) "DQ ground: Isolated on the die for improved noise immunity.", F2 VDDQ (power) "DQ power supply: Isolated on the die for improved noise immunity.", F26 VDDQ (power) "DQ power supply: Isolated on the die for improved noise immunity.", G1 VSSQ (power) "DQ ground: Isolated on the die for improved noise immunity.", G27 VSSQ (power) "DQ ground: Isolated on the die for improved noise immunity.", J1 VSSQ (power) "DQ ground: Isolated on the die for improved noise immunity.", J27 VSSQ (power) "DQ ground: Isolated on the die for improved noise immunity.", K2 VDDQ (power) "DQ power supply: Isolated on the die for improved noise immunity.", K26 VDDQ (power) "DQ power supply: Isolated on the die for improved noise immunity.", L1 VSSQ (power) "DQ ground: Isolated on the die for improved noise immunity.", L27 VSSQ (power) "DQ ground: Isolated on the die for improved noise immunity.", M2 VDDQ (power) "DQ power supply: Isolated on the die for improved noise immunity.", M26 VDD2 (power) "Core power: Supply 2.", N1 VSSQ (power) "DQ ground: Isolated on the die for improved noise immunity.", N26 VDDQ (power) "DQ power supply: Isolated on the die for improved noise immunity.", N27 VSS (power) "Common ground", P2 VDDQ (power) "DQ power supply: Isolated on the die for improved noise immunity.", P26 VDDCA (power) "Command/address power supply: Command/address power supply.", R1 VSSQ (power) "DQ ground: Isolated on the die for improved noise immunity.", R27 VSSCA (power) "Command/address ground: Isolated on the die for improved noise immunity.", T2 VDDQ (power) "DQ power supply: Isolated on the die for improved noise immunity.", U1 VSS (power) "Common ground", U2 VSSQ (power) "DQ ground: Isolated on the die for improved noise immunity.", U3 A-VREF(DQ) (in) "Reference voltage: VREFCA is reference for command/address input buffers, VREFDQ is reference for DQ input buffers.", U27 VSS (power) "Common ground", V1 VDD2 (power) "Core power: Supply 2.", V2 VDD1 (power) "Core power: Supply 1.", W1 VSS (power) "Common ground", W2 VDD2 (power) "Core power: Supply 2.", W27 VSSCA (power) "Command/address ground: Isolated on the die for improved noise immunity.", Y26 VDDCA (power) "Command/address power supply: Command/address power supply."
part D pins: A1 DNU "Do not use: Must be grounded or left floating.", A27 DNU "Do not use: Must be grounded or left floating.", AG1 DNU "Do not use: Must be grounded or left floating.", AG27 DNU "Do not use: Must be grounded or left floating.", B2 NC "No connect: Not internally connected.", B26 NC "No connect: Not internally connected."

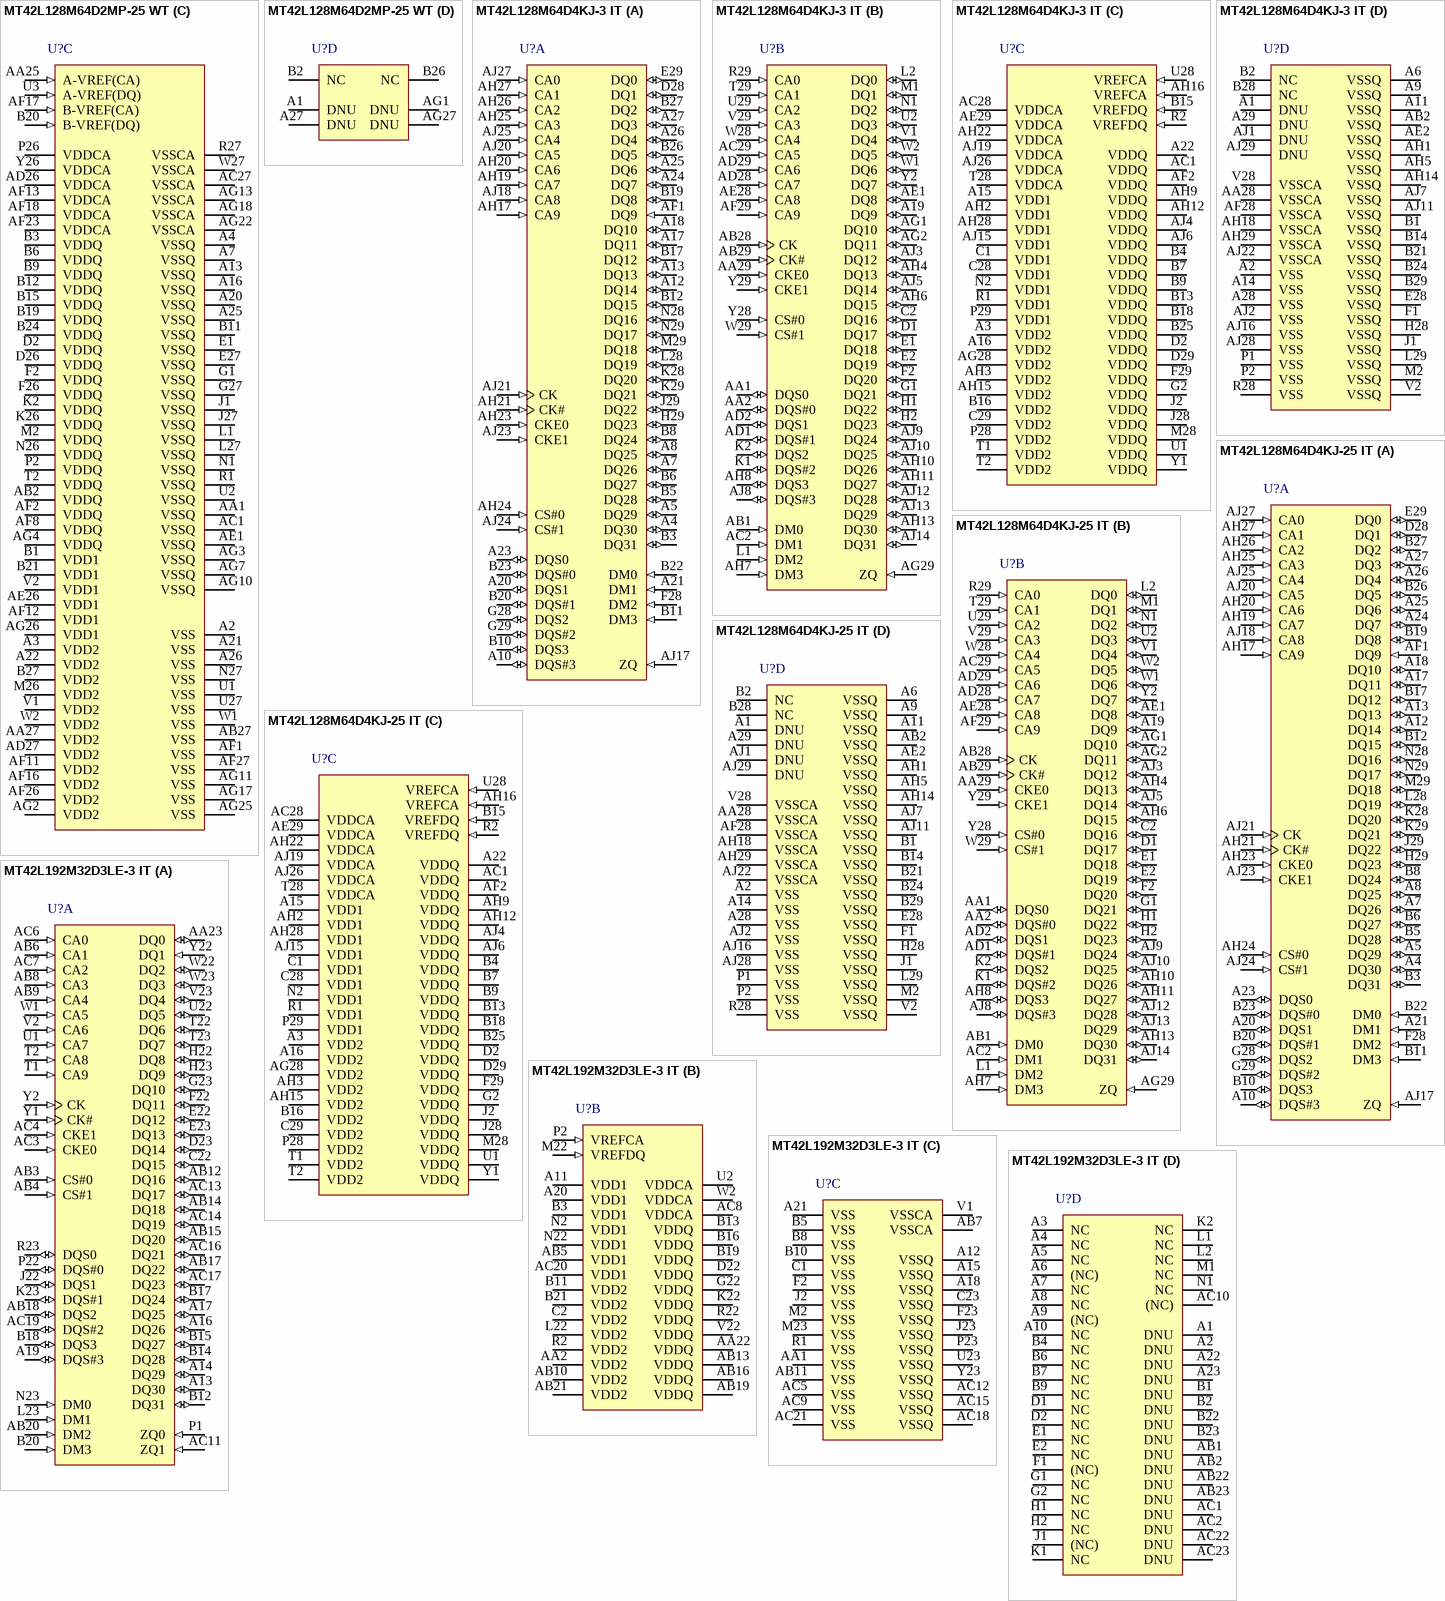
[diagram p5: symbols MT42L128M64D2MP-25 WT to MT42L192M32D3LE-3 IT]